# EAGLE library part 690367180872 (library Wuerth_Elektronik_eiCan_MiniModule_Connectors_v1.2)
WR-MM Female Connector without Latch and without Polarization, 8 Pins
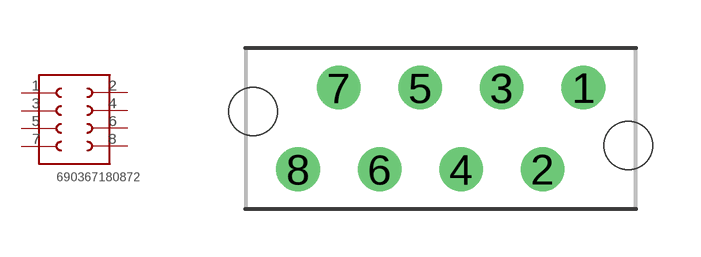
[diagram p3: symbol with the pads of 690367180872; footprint 690367180872]

Designator prefix K

## 690367180872  [690367180872]
1  1  pas
2  8  pas
3  2  pas
4  7  pas
5  3  pas
6  6  pas
7  4  pas
8  5  pas

## Footprint 690367180872 (pad centres in mm)
WR-MM Female Connector without Latch and without Polarization, 8 Pins
drill 0.85 round: 1 4.445,1.27; 2 3.175,-1.27; 3 1.905,1.27; 4 0.635,-1.27; 5 -0.635,1.27; 6 -1.905,-1.27; 7 -3.175,1.27; 8 -4.445,-1.27
hole 1.5 at 5.845,-0.53
hole 1.5 at -5.845,0.53